# Altium footprint library LocalLib.PcbLib: 36 footprints (part 3 of 3)
Each footprint in its own frame and in the unit in brackets; x right, y up, seen from the top. Pads: shape width x height; smd on the part's side, far side on the other; paste and mask are expansions set on the pad; w line width, h text height; cw(c..) or ccw(c..) is an arc to the next point about the centre after c.
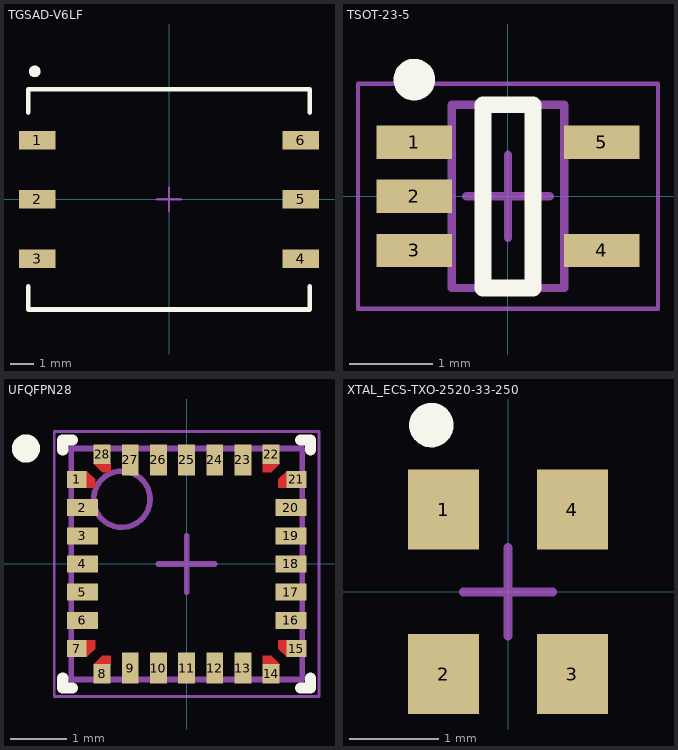
[diagram p2: the footprints below, top view; thin cyan lines are the x and y axes]

## TGSAD-V6LF [mm]
pads (6):
  rect 1.56x0.79 smd: 1(-5.65,2.54) 2(-5.65,0) 3(-5.65,-2.54) 4(5.65,-2.54) 5(5.65,0) 6(5.65,2.54)
Top Overlay:
  circle w0.25: c-5.755,5.485 r0.125
  lines w0.2: -6.035,-3.725 -6.035,-4.725 6.035,-4.725 6.035,-3.72 ; -6.035,3.725 -6.035,4.725 6.035,4.725 6.035,3.72
Mechanical 15:
  lines w0.1: -0.5,0 0.5,0 ; 0,-0.5 0,0.5
3D body: height 10.03, standoff 0, extent -6.035,-4.725 6.035,4.725

## TSOT-23-5 [mm] "SOT23, 5-Leads, Body 2,00x2,10mm, Pitch 0,65mm, IPC Medium Density"
height 1
pads (5):
  rect 0.9x0.4 smd: 1(-1.125,0.65) 2(-1.125,0) 3(-1.125,-0.65) 4(1.125,-0.65) 5(1.125,0.65)
Top Overlay:
  circle w0.25: c-1.125,1.4 r0.125
  lines w0.2: -0.3,-1.1 -0.3,1.1 0.3,1.1 0.3,-1.1 -0.3,-1.1
Mechanical 13:
  lines w0.1: -0.675,-1.1 0.675,-1.1 0.675,1.1 -0.675,1.1 -0.675,-1.1
Mechanical 15:
  lines w0.05: -1.8,-1.35 1.8,-1.35 1.8,1.35 -1.8,1.35 -1.8,-1.35
  lines w0.1: -0.5,0 0.5,0 ; 0,-0.5 0,0.5
3D body "SOT65P210X100-5N.step": height 1, standoff 0, extent -1.2,-1.1 1.2,1.1

## UFQFPN28 [mm] "QFN, 28-Leads, Body 4,00x4,00mm, Pitch 0,50mm, IPC High Density"
height 0.6
pads (28):
  rect 0.35x0.3 smd: 1(-1.95,1.5) 7(-1.95,-1.5) 15(1.95,-1.5) 21(1.95,1.5)
  rect 0.55x0.3 smd: 2(-1.85,1) 3(-1.85,0.5) 4(-1.85,0) 5(-1.85,-0.5) 6(-1.85,-1) 16(1.85,-1) 17(1.85,-0.5) 18(1.85,0) 19(1.85,0.5) 20(1.85,1)
  rect 0.3x0.35 smd: 8(-1.5,-1.95) 14(1.5,-1.95) 22(1.5,1.95) 28(-1.5,1.95)
  rect 0.3x0.55 smd: 9(-1,-1.85) 10(-0.5,-1.85) 11(0,-1.85) 12(0.5,-1.85) 13(1,-1.85) 23(1,1.85) 24(0.5,1.85) 25(0,1.85) 26(-0.5,1.85) 27(-1,1.85)
Top Layer:
  region: -1.785,1.65 -1.775,1.65 -1.625,1.5 -1.625,1.35 -1.785,1.35
  region: -1.65,1.785 -1.65,1.775 -1.5,1.625 -1.35,1.625 -1.35,1.785
  region: 1.65,1.785 1.65,1.775 1.5,1.625 1.35,1.625 1.35,1.785
  region: 1.785,1.65 1.775,1.65 1.625,1.5 1.625,1.35 1.785,1.35
  region: 1.785,-1.65 1.775,-1.65 1.625,-1.5 1.625,-1.35 1.785,-1.35
  region: 1.65,-1.785 1.65,-1.775 1.5,-1.625 1.35,-1.625 1.35,-1.785
  region: -1.65,-1.785 -1.65,-1.775 -1.5,-1.625 -1.35,-1.625 -1.35,-1.785
  region: -1.785,-1.65 -1.775,-1.65 -1.625,-1.5 -1.625,-1.35 -1.785,-1.35
Top Overlay:
  circle w0.25: c-2.85,2.05 r0.125
  lines w0.2: -2.2,-2.025 -2.2,-2.2 -2.025,-2.2 ; -2.2,2.025 -2.2,2.2 -2.025,2.2 ; 2.025,-2.2 2.2,-2.2 2.2,-2.025 ; 2.025,2.2 2.2,2.2 2.2,2.025
Mechanical 13:
  circle w0.1: c-1.15,1.15 r0.5
  lines w0.1: -2.05,-2.05 2.05,-2.05 2.05,2.05 -2.05,2.05 -2.05,-2.05
Mechanical 15:
  lines w0.05: -2.35,-2.35 2.35,-2.35 2.35,2.35 -2.35,2.35 -2.35,-2.35
  lines w0.1: -0.5,0 0.5,0 ; 0,-0.5 0,0.5
3D body "QFN50P400X400X60-28L.step": height 0.6, standoff 0, extent -2.051,-2.051 2.051,2.051

## XTAL_ECS-TXO-2520-33-250 [mm]
pads (4):
  rect 0.8x0.9 smd: 1(-0.725,0.925) 2(-0.725,-0.925) 3(0.725,-0.925) 4(0.725,0.925)
Top Overlay:
  circle w0.25: c-0.863,1.877 r0.125
Mechanical 15:
  lines w0.1: -0.5,0 0.5,0 ; 0,-0.5 0,0.5
3D body: height 1, standoff 0, extent -1,-1.25 1,1.25